# Altium footprint library cn_key.PcbLib: 1 footprints
Each footprint in its own frame and in the unit in brackets; x right, y up, seen from the top. Pads: shape width x height; smd on the part's side, far side on the other; paste and mask are expansions set on the pad; w line width, h text height; cw(c..) or ccw(c..) is an arc to the next point about the centre after c.
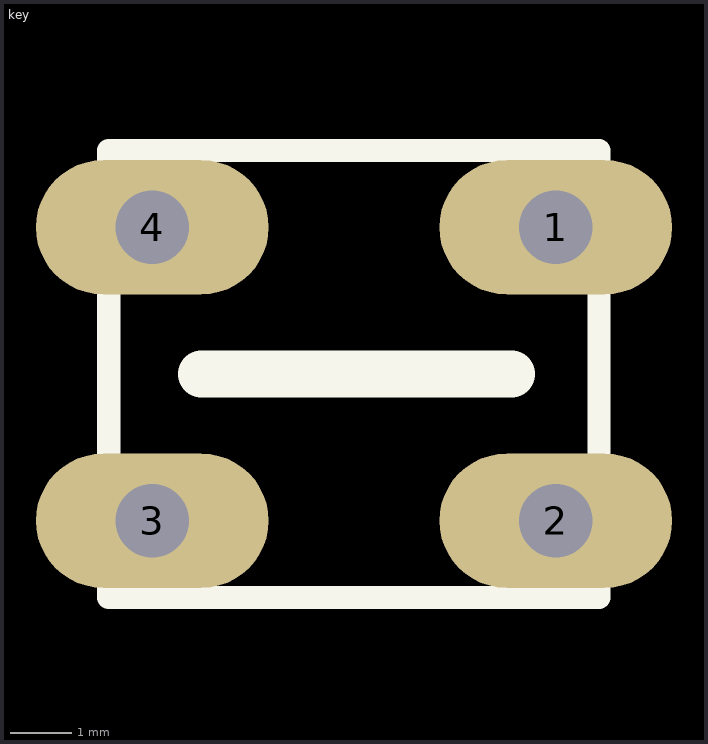
[diagram p0: the footprint, top view; thin cyan lines are the x and y axes]

## key [mm]
pads (4):
  oval 3.81x2.2 hole 1.2: 1(-825.121,-937.781) 2(-825.121,-942.581) 3(-831.721,-942.581) 4(-831.721,-937.781)
Top Overlay:
  lines w0.381: -832.431,-943.837 -832.431,-936.525 -824.413,-936.525 -824.413,-943.837 -832.431,-943.837
  lines w0.762: -830.921,-940.181 -825.841,-940.181